# EAGLE library part MMATCH-8-* (library jt-con-micromatch)
AMP Micromatch 8-pin
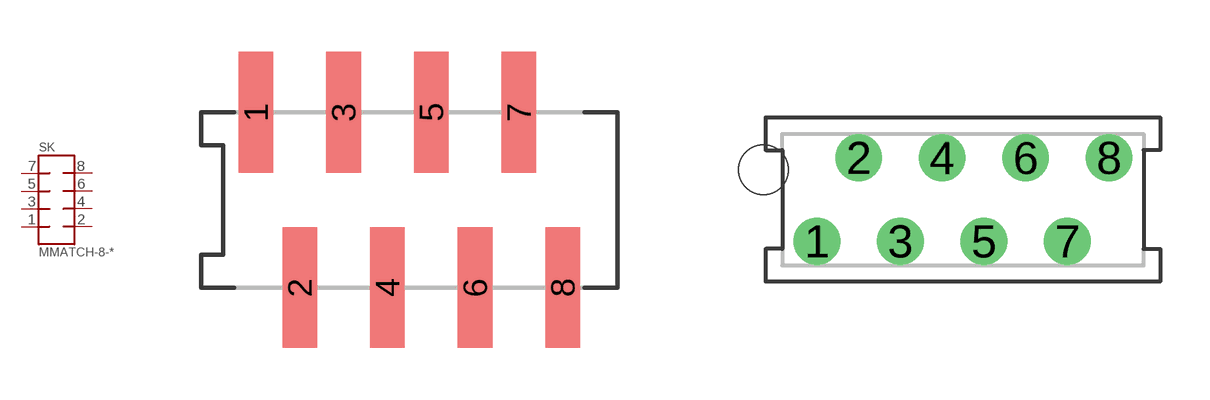
[diagram p0: symbol with the pads of AMP-188275-8; footprints AMP-188275-8, AMP-215079-8]

Designator prefix SK

## MMATCH-8-SMT  [AMP-188275-8]
1  1
2  2
3  3
4  4
5  5
6  6
7  7
8  8

## MMATCH-8-PTH  [AMP-215079-8]
Pads as for AMP-188275-8

## Footprint AMP-188275-8 (pad centres in mm)
smd 1 x 3.5: 1 0,2.54; 2 1.27,-2.54; 3 2.54,2.54; 4 3.81,-2.54; 5 5.08,2.54; 6 6.35,-2.54; 7 7.62,2.54; 8 8.89,-2.54

## Footprint AMP-215079-8 (pad centres in mm)
drill 0.8 pad 1.422: 1 0,-1.27; 2 1.27,1.27; 3 2.54,-1.27; 4 3.81,1.27; 5 5.08,-1.27; 6 6.35,1.27; 7 7.62,-1.27; 8 8.89,1.27
hole 1.5 at -1.62,0.905